# Altium schematic symbol library marcolib.SchLib: 27 symbols
Pins are listed as number, name and electrical type; pins without a type are passive.

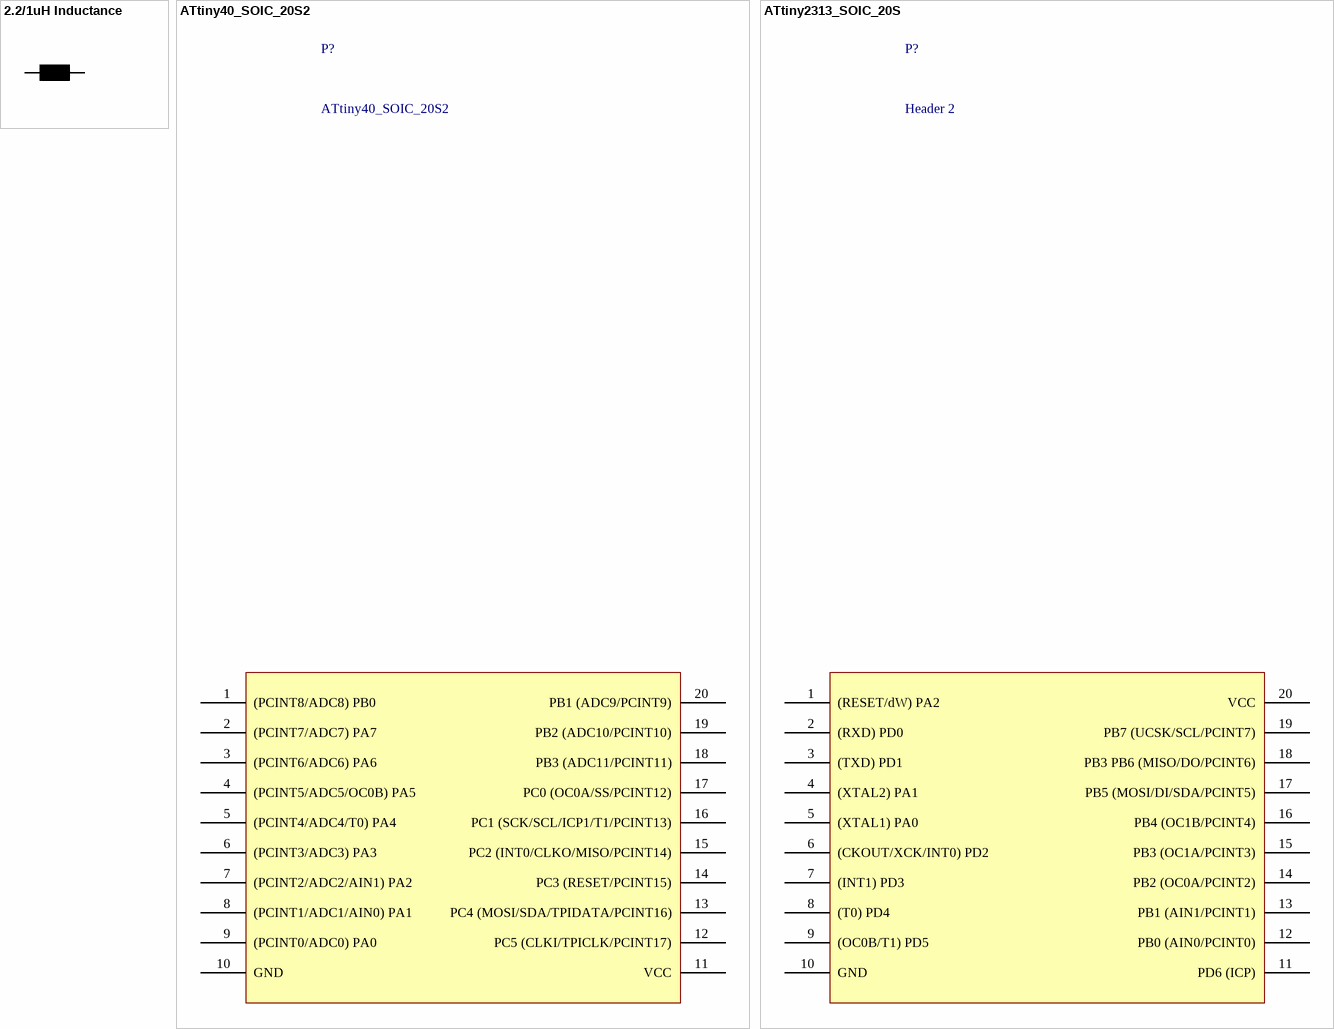
[diagram p0: symbols 2.2/1uH Inductance to ATtiny2313_SOIC_20S]

## 2.2/1uH Inductance
designator L?, comment L
Inductance; LatestRevisionDate: 17-Jul-2002; LatestRevisionNote: Re-released for DXP Platform.; Publisher: Altium Limited
signal-integrity model Connector
footprint PCBComponent_1 - duplicate3
pins: 1, 2

## ATtiny40_SOIC_20S2
designator P?
Header, 2-Pin; LatestRevisionDate: 17-Jul-2002; LatestRevisionNote: Re-released for DXP Platform.; Publisher: Altium Limited
footprint Attiny40_SOIC_20S2
pins: 1 (PCINT8/ADC8) PB0, 2 (PCINT7/ADC7) PA7, 3 (PCINT6/ADC6) PA6, 4 (PCINT5/ADC5/OC0B) PA5, 5 (PCINT4/ADC4/T0) PA4, 6 (PCINT3/ADC3) PA3, 7 (PCINT2/ADC2/AIN1) PA2, 8 (PCINT1/ADC1/AIN0) PA1, 9 (PCINT0/ADC0) PA0, 10 GND, 11 VCC, 12 PC5 (CLKI/TPICLK/PCINT17), 13 PC4 (MOSI/SDA/TPIDATA/PCINT16), 14 PC3 (RESET/PCINT15), 15 PC2 (INT0/CLKO/MISO/PCINT14), 16 PC1 (SCK/SCL/ICP1/T1/PCINT13), 17 PC0 (OC0A/SS/PCINT12), 18 PB3 (ADC11/PCINT11), 19 PB2 (ADC10/PCINT10), 20 PB1 (ADC9/PCINT9)

## ATtiny2313_SOIC_20S
designator P?, comment Header 2
Header, 2-Pin; LatestRevisionDate: 17-Jul-2002; LatestRevisionNote: Re-released for DXP Platform.; Publisher: Altium Limited
footprint ATtiny2313_SOIC_20S_new
pins: 1 (RESET/dW) PA2, 2 (RXD) PD0, 3 (TXD) PD1, 4 (XTAL2) PA1, 5 (XTAL1) PA0, 6 (CKOUT/XCK/INT0) PD2, 7 (INT1) PD3, 8 (T0) PD4, 9 (OC0B/T1) PD5, 10 GND, 11 PD6 (ICP), 12 PB0 (AIN0/PCINT0), 13 PB1 (AIN1/PCINT1), 14 PB2 (OC0A/PCINT2), 15 PB3 (OC1A/PCINT3), 16 PB4 (OC1B/PCINT4), 17 PB5 (MOSI/DI/SDA/PCINT5), 18 PB3 PB6 (MISO/DO/PCINT6), 19 PB7 (UCSK/SCL/PCINT7), 20 VCC

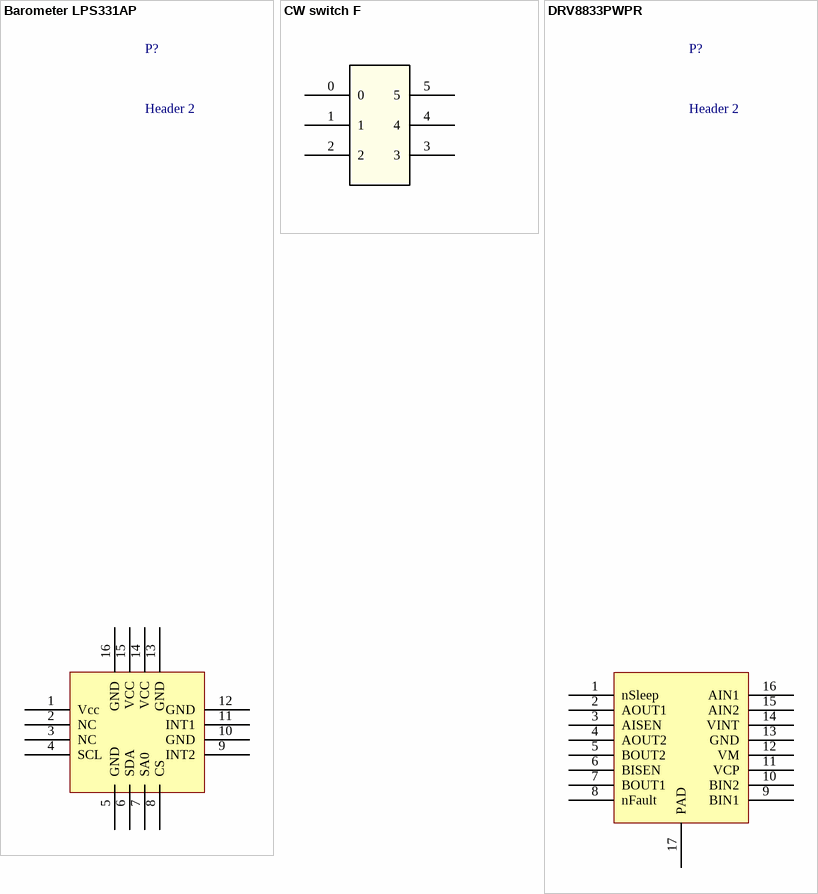
[diagram p1: symbols Barometer LPS331AP to DRV8833PWPR]

## Barometer LPS331AP
designator P?, comment Header 2
Header, 2-Pin; LatestRevisionDate: 17-Jul-2002; LatestRevisionNote: Re-released for DXP Platform.; Publisher: Altium Limited
footprint HCLGA-16L
pins: 1 Vcc, 2 NC, 3 NC, 4 SCL, 5 GND, 6 SDA, 7 SA0, 8 CS, 9 INT2, 10 GND, 11 INT1, 12 GND, 13 GND, 14 VCC, 15 VCC, 16 GND

## CW switch F
designator S?, comment Switch 11A
Switch, 11A, 6pin; LatestRevisionDate: 17-Jul-2002; LatestRevisionNote: Re-released for DXP Platform.; Publisher: Altium Limited
footprint PCBComponent_1 - duplicate5
pins: 0, 1, 2, 3, 4, 5

## DRV8833PWPR
designator P?, comment Header 2
Header, 2-Pin; LatestRevisionDate: 17-Jul-2002; LatestRevisionNote: Re-released for DXP Platform.; Publisher: Altium Limited
signal-integrity model Connector
footprint DRV8833PWPR (Foot print of an Hbridge with termal pad)
pins: 1 nSleep, 2 AOUT1, 3 AISEN, 4 AOUT2, 5 BOUT2, 6 BISEN, 7 BOUT1, 8 nFault, 9 BIN1, 10 BIN2, 11 VCP, 12 VM, 13 GND, 14 VINT, 15 AIN2, 16 AIN1, 17 PAD

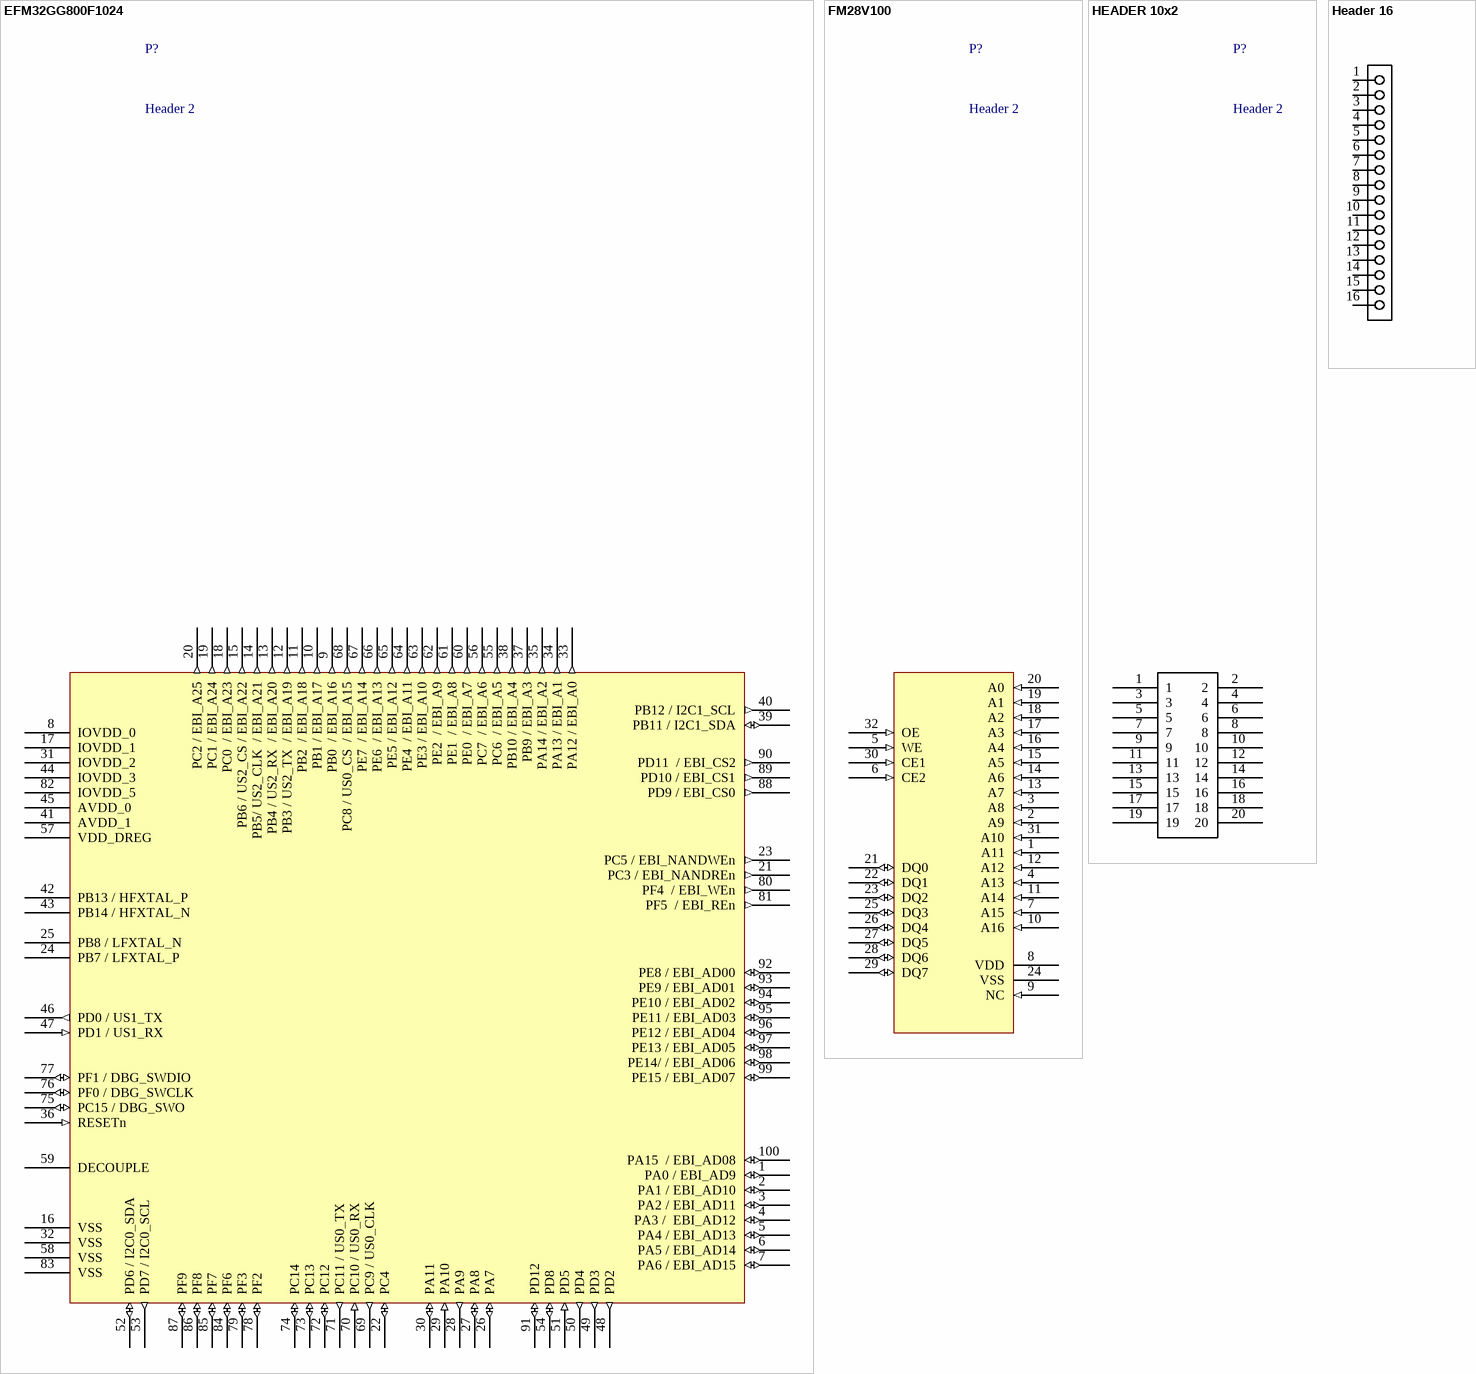
[diagram p2: symbols EFM32GG800F1024 to Header 16]

## EFM32GG800F1024
designator P?, comment Header 2
Header, 2-Pin; LatestRevisionDate: 17-Jul-2002; LatestRevisionNote: Re-released for DXP Platform.; Publisher: Altium Limited
signal-integrity model Connector
footprint EFM32GG880 (Giant Gecko 880)
pins: 1 PA0 / EBI_AD9 (io), 2 PA1 / EBI_AD10 (io), 3 PA2 / EBI_AD11 (io), 4 PA3 /  EBI_AD12 (io), 5 PA4 / EBI_AD13 (io), 6 PA5 / EBI_AD14 (io), 7 PA6 / EBI_AD15 (io), 8 IOVDD_0 (power), 9 PB0  / EBI_A16 (out), 10 PB1 / EBI_A17 (out), 11 PB2  / EBI_A18 (out), 12 PB3 / US2_TX  / EBI_A19 (out), 13 PB4 / US2_RX  / EBI_A20 (out), 14 PB5/ US2_CLK  / EBI_A21 (out), 15 PB6 / US2_CS / EBI_A22 (out), 16 VSS (power), 17 IOVDD_1 (power), 18 PC0  / EBI_A23 (out), 19 PC1 / EBI_A24 (out), 20 PC2 / EBI_A25 (out), 21 PC3 / EBI_NANDREn (out), 22 PC4 (io), 23 PC5 / EBI_NANDWEn (out), 24 PB7 / LFXTAL_P, 25 PB8 / LFXTAL_N, 26 PA7 (io), 27 PA8 (io), 28 PA9 (out), 29 PA10 (in), 30 PA11 (io), 31 IOVDD_2 (power), 32 VSS (power), 33 PA12 / EBI_A0 (out), 34 PA13 / EBI_A1 (out), 35 PA14 / EBI_A2 (out), 36 RESETn (in), 37 PB9 / EBI_A3 (out), 38 PB10 / EBI_A4 (out), 39 PB11 / I2C1_SDA (io), 40 PB12 / I2C1_SCL (out), 41 AVDD_1 (power), 42 PB13 / HFXTAL_P, 43 PB14 / HFXTAL_N, 44 IOVDD_3 (power), 45 AVDD_0 (power), 46 PD0 / US1_TX (out), 47 PD1 / US1_RX (in), 48 PD2 (out), 49 PD3 (out), 50 PD4 (out), 51 PD5 (in), 52 PD6 / I2C0_SDA (io), 53 PD7 / I2C0_SCL (out), 54 PD8 (io), 55 PC6  / EBI_A5 (out), 56 PC7  / EBI_A6 (out), 57 VDD_DREG (power), 58 VSS (power), 59 DECOUPLE (power), 60 PE0  / EBI_A7 (out), 61 PE1  / EBI_A8 (out), 62 PE2  / EBI_A9 (out), 63 PE3 / EBI_A10 (out), 64 PE4  / EBI_A11 (out), 65 PE5 / EBI_A12 (out), 66 PE6  / EBI_A13 (out), 67 PE7  / EBI_A14 (out), 68 PC8 / US0_CS  / EBI_A15 (out), 69 PC9 / US0_CLK (out), 70 PC10 / US0_RX (in), 71 PC11 / US0_TX (out), 72 PC12 (io), 73 PC13 (io), 74 PC14 (io), 75 PC15 / DBG_SWO (io), 76 PF0 / DBG_SWCLK (io), 77 PF1 / DBG_SWDIO (io), 78 PF2 (io), 79 PF3 (io), 80 PF4  / EBI_WEn (out), 81 PF5  / EBI_REn (out), 82 IOVDD_5 (power), 83 VSS (power), 84 PF6 (io), 85 PF7 (io), 86 PF8 (io), 87 PF9 (io), 88 PD9 / EBI_CS0 (out), 89 PD10 / EBI_CS1 (out), 90 PD11  / EBI_CS2 (out), 91 PD12 (io), 92 PE8 / EBI_AD00 (io), 93 PE9 / EBI_AD01 (io), 94 PE10 / EBI_AD02 (io), 95 PE11 / EBI_AD03 (io), 96 PE12 / EBI_AD04 (io), 97 PE13 / EBI_AD05 (io), 98 PE14/ / EBI_AD06 (io), 99 PE15 / EBI_AD07 (io), 100 PA15  / EBI_AD08 (io)

## FM28V100
designator P?, comment Header 2
Header, 2-Pin; LatestRevisionDate: 17-Jul-2002; LatestRevisionNote: Re-released for DXP Platform.; Publisher: Altium Limited
signal-integrity model Connector
footprint FM28V100 (FRAM)
pins: 1 A11 (in), 2 A9 (in), 3 A8 (in), 4 A13 (in), 5 WE (in), 6 CE2 (in), 7 A15 (in), 8 VDD, 9 NC (in), 10 A16 (in), 11 A14 (in), 12 A12 (in), 13 A7 (in), 14 A6 (in), 15 A5 (in), 16 A4 (in), 17 A3 (in), 18 A2 (in), 19 A1 (in), 20 A0 (in), 21 DQ0 (io), 22 DQ1 (io), 23 DQ2 (io), 24 VSS, 25 DQ3 (io), 26 DQ4 (io), 27 DQ5 (io), 28 DQ6 (io), 29 DQ7 (io), 30 CE1 (in), 31 A10 (in), 32 OE (in)

## HEADER 10x2
designator P?, comment Header 2
Header, 2-Pin; LatestRevisionDate: 17-Jul-2002; LatestRevisionNote: Re-released for DXP Platform.; Publisher: Altium Limited
signal-integrity model Connector
footprint HEADER 10x2
pins: 1, 2, 3, 4, 5, 6, 7, 8, 9, 10, 11, 12, 13, 14, 15, 16, 17, 18, 19, 20

## Header 16
designator P?, comment Header 2
Header, 2-Pin; LatestRevisionDate: 17-Jul-2002; LatestRevisionNote: Re-released for DXP Platform.; Publisher: Altium Limited
signal-integrity model Connector
footprint PCBComponent_1
pins: 1, 2, 3, 4, 5, 6, 7, 8, 9, 10, 11, 12, 13, 14, 15, 16

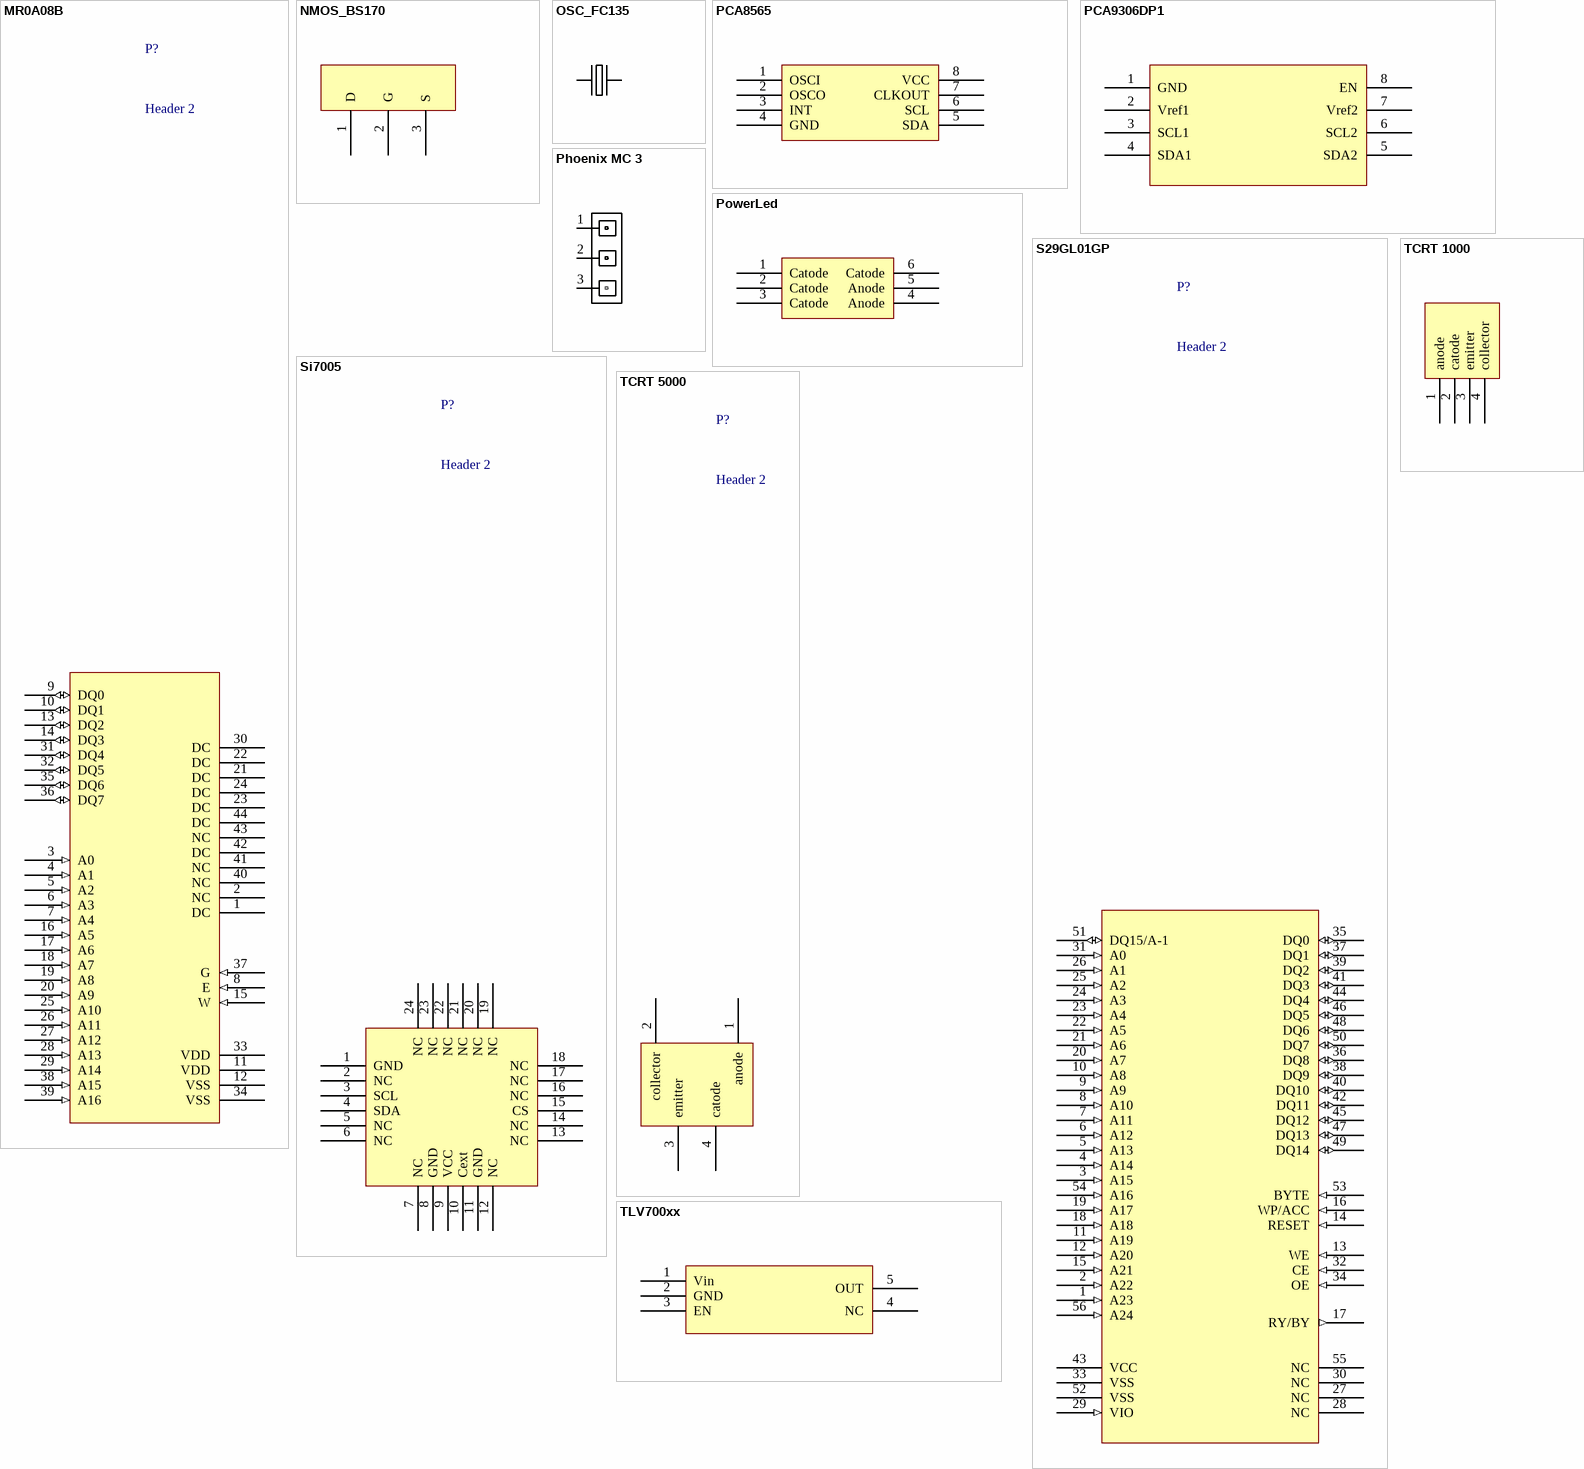
[diagram p3: symbols MR0A08B to TLV700xx]

## MR0A08B
designator P?, comment Header 2
Header, 2-Pin; LatestRevisionDate: 17-Jul-2002; LatestRevisionNote: Re-released for DXP Platform.; Publisher: Altium Limited
signal-integrity model Connector
footprint MR0A08B
pins: 1 DC, 2 NC, 3 A0 (in), 4 A1 (in), 5 A2 (in), 6 A3 (in), 7 A4 (in), 8 E (in), 9 DQ0 (io), 10 DQ1 (io), 11 VDD, 12 VSS, 13 DQ2 (io), 14 DQ3 (io), 15 W (in), 16 A5 (in), 17 A6 (in), 18 A7 (in), 19 A8 (in), 20 A9 (in), 21 DC, 22 DC, 23 DC, 24 DC, 25 A10 (in), 26 A11 (in), 27 A12 (in), 28 A13 (in), 29 A14 (in), 30 DC, 31 DQ4 (io), 32 DQ5 (io), 33 VDD, 34 VSS, 35 DQ6 (io), 36 DQ7 (io), 37 G (in), 38 A15 (in), 39 A16 (in), 40 NC, 41 NC, 42 DC, 43 NC, 44 DC

## NMOS_BS170
designator P?, comment Header 2
Header, 2-Pin; LatestRevisionDate: 17-Jul-2002; LatestRevisionNote: Re-released for DXP Platform.; Publisher: Altium Limited
signal-integrity model Connector
footprint Model Name (Footprint not found)
pins: 1 D, 2 G, 3 S

## OSC_FC135
designator P?, comment Header 2
Header, 2-Pin; LatestRevisionDate: 17-Jul-2002; LatestRevisionNote: Re-released for DXP Platform.; Publisher: Altium Limited
signal-integrity model Connector
footprint OSC_F135
pins: 1, 2

## PCA8565
designator P?, comment Header 2
Header, 2-Pin; LatestRevisionDate: 17-Jul-2002; LatestRevisionNote: Re-released for DXP Platform.; Publisher: Altium Limited
footprint PCA8565TS (calendar)
pins: 1 OSCI, 2 OSCO, 3 INT, 4 GND, 5 SDA, 6 SCL, 7 CLKOUT, 8 VCC

## PCA9306DP1
designator P?, comment Header 2
Header, 2-Pin; LatestRevisionDate: 17-Jul-2002; LatestRevisionNote: Re-released for DXP Platform.; Publisher: Altium Limited
footprint PCA9306DP1 (I2C voltage translator)
pins: 1 GND, 2 Vref1, 3 SCL1, 4 SDA1, 5 SDA2, 6 SCL2, 7 Vref2, 8 EN

## Phoenix MC 3
designator P?, comment Header 2
Header, 2-Pin; LatestRevisionDate: 17-Jul-2002; LatestRevisionNote: Re-released for DXP Platform.; Publisher: Altium Limited
footprint PCBComponent_1 - duplicate4
pins: 1, 2, 3

## PowerLed
designator P?, comment Header 2
Header, 2-Pin; LatestRevisionDate: 17-Jul-2002; LatestRevisionNote: Re-released for DXP Platform.; Publisher: Altium Limited
footprint ASMT-QWBF-NKL0E LED
pins: 1 Catode, 2 Catode, 3 Catode, 4 Anode, 5 Anode, 6 Catode

## S29GL01GP
designator P?, comment Header 2
Header, 2-Pin; LatestRevisionDate: 17-Jul-2002; LatestRevisionNote: Re-released for DXP Platform.; Publisher: Altium Limited
signal-integrity model Connector
footprint S29GL01GP (NOR flash memory)
pins: 1 A23 (in), 2 A22 (in), 3 A15 (in), 4 A14 (in), 5 A13 (in), 6 A12 (in), 7 A11 (in), 8 A10 (in), 9 A9 (in), 10 A8 (in), 11 A19 (in), 12 A20 (in), 13 WE (in), 14 RESET (in), 15 A21 (in), 16 WP/ACC (in), 17 RY/BY (out), 18 A18 (in), 19 A17 (in), 20 A7 (in), 21 A6 (in), 22 A5 (in), 23 A4 (in), 24 A3 (in), 25 A2 (in), 26 A1 (in), 27 NC, 28 NC, 29 VIO (in), 30 NC, 31 A0 (in), 32 CE (in), 33 VSS, 34 OE (in), 35 DQ0 (io), 36 DQ8 (io), 37 DQ1 (io), 38 DQ9 (io), 39 DQ2 (io), 40 DQ10 (io), 41 DQ3 (io), 42 DQ11 (io), 43 VCC, 44 DQ4 (io), 45 DQ12 (io), 46 DQ5 (io), 47 DQ13 (io), 48 DQ6 (io), 49 DQ14 (io), 50 DQ7 (io), 51 DQ15/A-1 (io), 52 VSS, 53 BYTE (in), 54 A16 (in), 55 NC, 56 A24 (in)

## Si7005
designator P?, comment Header 2
Header, 2-Pin; LatestRevisionDate: 17-Jul-2002; LatestRevisionNote: Re-released for DXP Platform.; Publisher: Altium Limited
footprint Si7005 (RAH sensor)
pins: 1 GND, 2 NC, 3 SCL, 4 SDA, 5 NC, 6 NC, 7 NC, 8 GND, 9 VCC, 10 Cext, 11 GND, 12 NC, 13 NC, 14 NC, 15 CS, 16 NC, 17 NC, 18 NC, 19 NC, 20 NC, 21 NC, 22 NC, 23 NC, 24 NC

## TCRT 1000
designator P?, comment Header 2
Header, 2-Pin; LatestRevisionDate: 17-Jul-2002; LatestRevisionNote: Re-released for DXP Platform.; Publisher: Altium Limited
footprint TCRT 1000
pins: 1 anode, 2 catode, 3 emitter, 4 collector

## TCRT 5000
designator P?, comment Header 2
Header, 2-Pin; LatestRevisionDate: 17-Jul-2002; LatestRevisionNote: Re-released for DXP Platform.; Publisher: Altium Limited
footprint TCRT 5000
pins: 1 anode, 2 collector, 3 emitter, 4 catode

## TLV700xx
designator P?, comment Header 2
Header, 2-Pin; LatestRevisionDate: 17-Jul-2002; LatestRevisionNote: Re-released for DXP Platform.; Publisher: Altium Limited
footprint TLV70033DDCR (SOT23, 5-Leads, Body 3.0x3.0mm (max), Pitch 0.95mm, IPC Medium Density)
pins: 1 Vin, 2 GND, 3 EN, 4 NC, 5 OUT

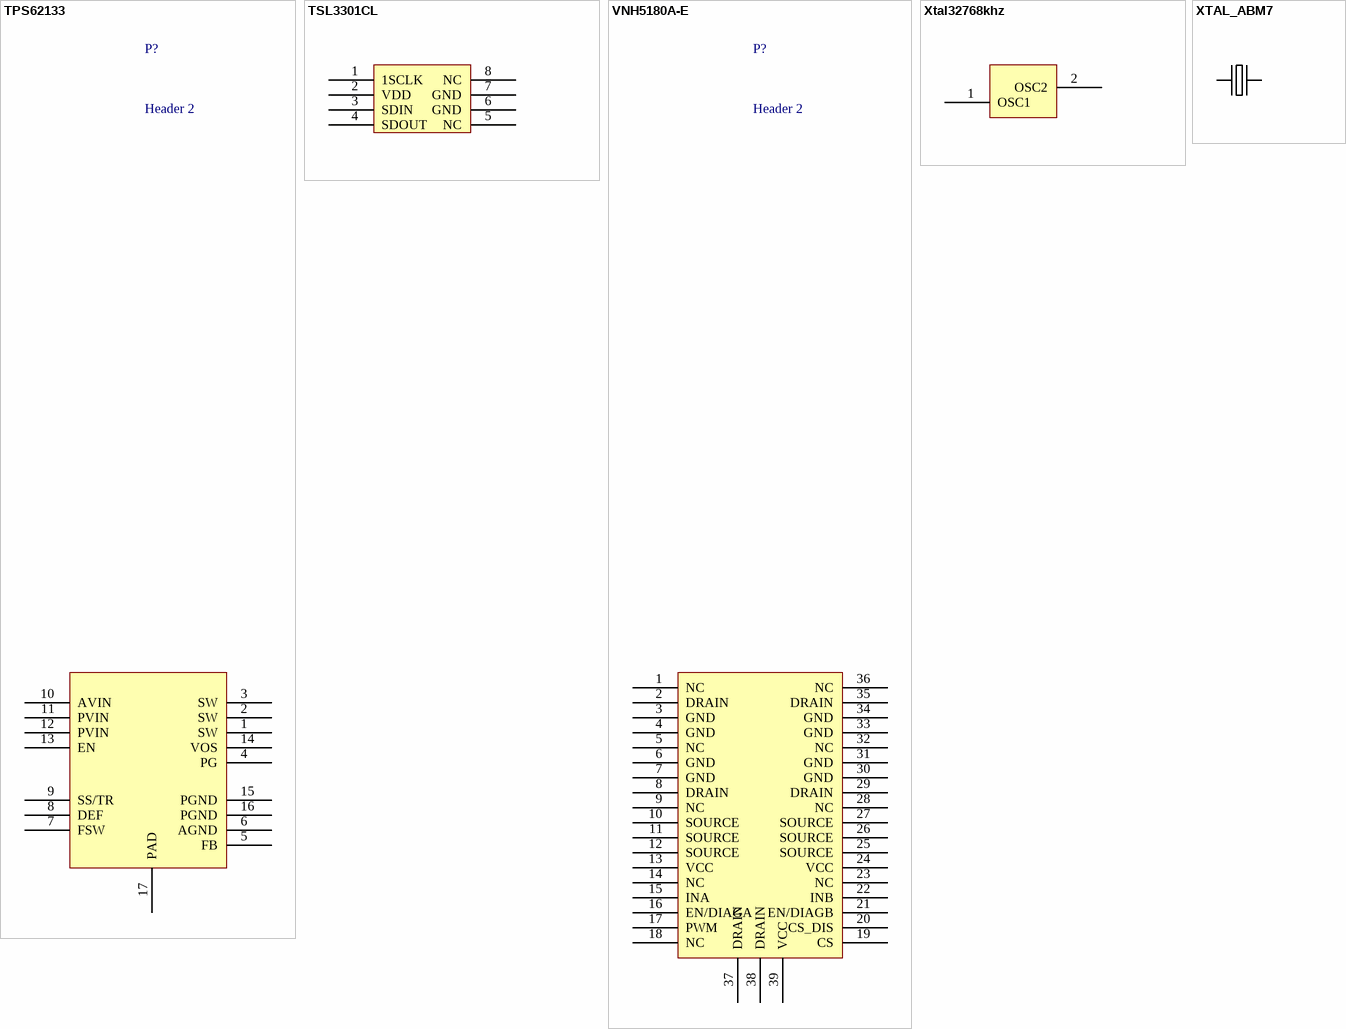
[diagram p4: symbols TPS62133 to XTAL_ABM7]

## TPS62133
designator P?, comment Header 2
Header, 2-Pin; LatestRevisionDate: 17-Jul-2002; LatestRevisionNote: Re-released for DXP Platform.; Publisher: Altium Limited
footprint TPS62133 - duplicate
pins: 1 SW, 2 SW, 3 SW, 4 PG, 5 FB, 6 AGND, 7 FSW, 8 DEF, 9 SS/TR, 10 AVIN, 11 PVIN, 12 PVIN, 13 EN, 14 VOS, 15 PGND, 16 PGND, 17 PAD

## TSL3301CL
designator P?, comment Header 2
Header, 2-Pin; LatestRevisionDate: 17-Jul-2002; LatestRevisionNote: Re-released for DXP Platform.; Publisher: Altium Limited
signal-integrity model Connector
footprint TSL3301CL
pins: 1 1SCLK, 2 VDD, 3 SDIN, 4 SDOUT, 5 NC, 6 GND, 7 GND, 8 NC

## VNH5180A-E
designator P?, comment Header 2
Header, 2-Pin; LatestRevisionDate: 17-Jul-2002; LatestRevisionNote: Re-released for DXP Platform.; Publisher: Altium Limited
footprint VNH5180A-E (SSOP, 36-Leads, Body 10.5x7.6mm (max), Pitch 0.50mm, IPC Medium Density)
pins: 1 NC, 2 DRAIN, 3 GND, 4 GND, 5 NC, 6 GND, 7 GND, 8 DRAIN, 9 NC, 10 SOURCE, 11 SOURCE, 12 SOURCE, 13 VCC, 14 NC, 15 INA, 16 EN/DIAGA, 17 PWM, 18 NC, 19 CS, 20 CS_DIS, 21 EN/DIAGB, 22 INB, 23 NC, 24 VCC, 25 SOURCE, 26 SOURCE, 27 SOURCE, 28 NC, 29 DRAIN, 30 GND, 31 GND, 32 NC, 33 GND, 34 GND, 35 DRAIN, 36 NC, 37 DRAIN, 38 DRAIN, 39 VCC

## Xtal32768khz
designator P?, comment Header 2
Header, 2-Pin; LatestRevisionDate: 17-Jul-2002; LatestRevisionNote: Re-released for DXP Platform.; Publisher: Altium Limited
footprint Quartz
pins: 1 OSC1, 2 OSC2

## XTAL_ABM7
designator P?, comment Header 2
Header, 2-Pin; LatestRevisionDate: 17-Jul-2002; LatestRevisionNote: Re-released for DXP Platform.; Publisher: Altium Limited
signal-integrity model Connector
footprint XTAL_ABM7 (Oscillator/Crystal)
pins: 1, 2